# Altium integrated library Capacitors - Ceramic - 0402.IntLib: 4569 symbols (part 81 of 100)
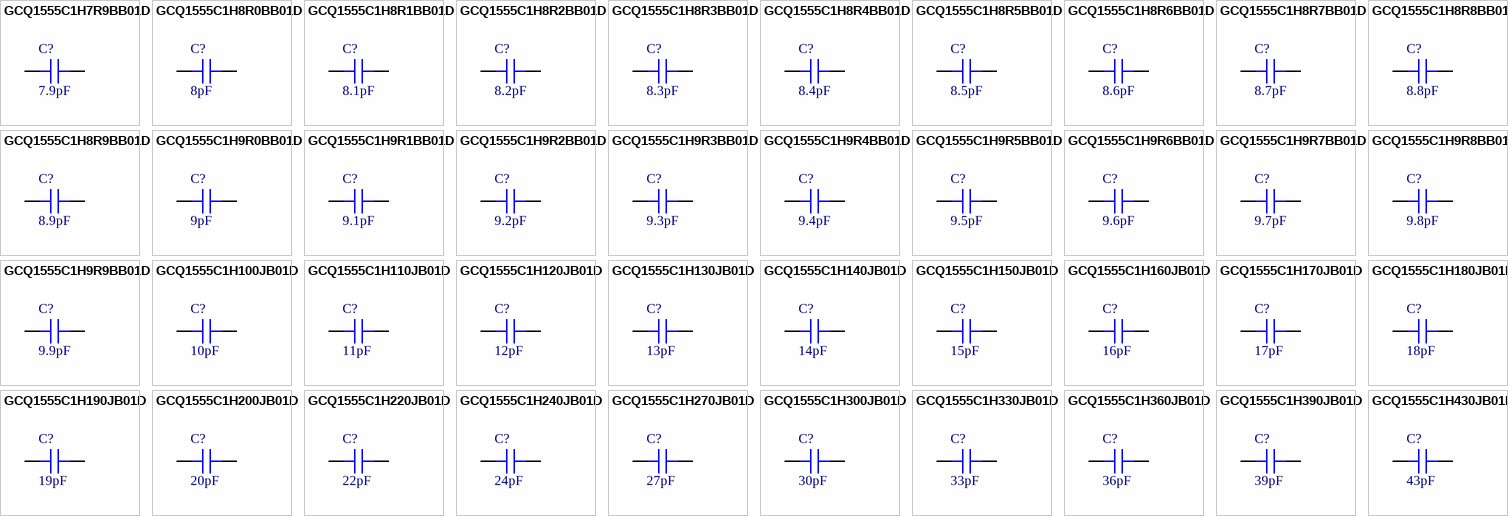
[diagram p194: symbols GCQ1555C1H7R9BB01D to GCQ1555C1H430JB01D]

## GCQ1555C1H130JB01D
designator C?, comment 13pF
CAP CER 13PF 50V C0G/NP0 0402; Part Number: GCQ1555C1H130JB01D; Manufacturer: Murata Electronics; Temperature Coefficient: C0G, NP0; Tolerance: ±5%; Value: 13pF; Applications: RF, Microwave, High Frequency, Automotive; Capacitance: 13pF; ComponentLink1Description: Datasheet; ComponentLink1URL: https://search.murata.co.jp/Ceramy/image/img/A01X/G101/ENG/GCQ1555C1H130JB01-01.pdf; ComponentLink2Description: DigiKey Link; ComponentLink2URL: http://digikey.com/product-detail/en/murata-electronics/GCQ1555C1H130JB01D/490-17426-1-ND/7897598; Device Package: 0402 (1005 Metric); LastUpdated: 9/2/2020 1:02:18 AM; Lifecycle Status: Active; Minimum Order: 1; Mounting Type: Surface Mount, MLCC; Operating Temperature: -55°C ~ 125°C; Package / Case: 0402 (1005 Metric); Packaging: TapeAndReel; PartId: 4526; Part Status: Active; Price: 0.07; Ratings: AEC-Q200; Series: GCQ; Size / Dimension: 0.039" L x 0.020" W (1.00mm x 0.50mm); Supplier 1: DigiKey; Supplier Part Number 1: 490-17426-1-ND; Thickness (Max): 0.022" (0.55mm); Voltage - Rated: 50V
footprint CAP 0402_1005
pins: 1, 2

## GCQ1555C1H140JB01D
designator C?, comment 14pF
CAP CER 14PF 50V C0G/NP0 0402; Part Number: GCQ1555C1H140JB01D; Manufacturer: Murata Electronics; Temperature Coefficient: C0G, NP0; Tolerance: ±5%; Value: 14pF; Applications: RF, Microwave, High Frequency, Automotive; Capacitance: 14pF; ComponentLink1Description: Datasheet; ComponentLink1URL: https://search.murata.co.jp/Ceramy/image/img/A01X/G101/ENG/GCQ1555C1H140JB01-01.pdf; ComponentLink2Description: DigiKey Link; ComponentLink2URL: http://digikey.com/product-detail/en/murata-electronics/GCQ1555C1H140JB01D/490-17427-1-ND/7897599; Device Package: 0402 (1005 Metric); LastUpdated: 9/2/2020 1:02:16 AM; Lifecycle Status: Active; Minimum Order: 1; Mounting Type: Surface Mount, MLCC; Operating Temperature: -55°C ~ 125°C; Package / Case: 0402 (1005 Metric); Packaging: TapeAndReel; PartId: 5239; Part Status: Active; Price: 0.07; Ratings: AEC-Q200; Series: GCQ; Size / Dimension: 0.039" L x 0.020" W (1.00mm x 0.50mm); Supplier 1: DigiKey; Supplier Part Number 1: 490-17427-1-ND; Thickness (Max): 0.022" (0.55mm); Voltage - Rated: 50V
footprint CAP 0402_1005
pins: 1, 2

## GCQ1555C1H150JB01D
designator C?, comment 15pF
CAP CER 15PF 50V C0G/NP0 0402; Part Number: GCQ1555C1H150JB01D; Manufacturer: Murata Electronics; Temperature Coefficient: C0G, NP0; Tolerance: ±5%; Value: 15pF; Applications: RF, Microwave, High Frequency, Automotive; Capacitance: 15pF; ComponentLink1Description: Datasheet; ComponentLink1URL: https://search.murata.co.jp/Ceramy/image/img/A01X/G101/ENG/GCQ1555C1H150JB01-01.pdf; ComponentLink2Description: DigiKey Link; ComponentLink2URL: http://digikey.com/product-detail/en/murata-electronics/GCQ1555C1H150JB01D/490-17428-1-ND/7897600; Device Package: 0402 (1005 Metric); LastUpdated: 9/2/2020 1:02:11 AM; Lifecycle Status: Active; Minimum Order: 1; Mounting Type: Surface Mount, MLCC; Operating Temperature: -55°C ~ 125°C; Package / Case: 0402 (1005 Metric); Packaging: TapeAndReel; PartId: 7573; Part Status: Active; Price: 0.07; Ratings: AEC-Q200; Series: GCQ; Size / Dimension: 0.039" L x 0.020" W (1.00mm x 0.50mm); Supplier 1: DigiKey; Supplier Part Number 1: 490-17428-1-ND; Thickness (Max): 0.022" (0.55mm); Voltage - Rated: 50V
footprint CAP 0402_1005
pins: 1, 2

## GCQ1555C1H160JB01D
designator C?, comment 16pF
CAP CER 16PF 50V C0G/NP0 0402; Part Number: GCQ1555C1H160JB01D; Manufacturer: Murata Electronics; Temperature Coefficient: C0G, NP0; Tolerance: ±5%; Value: 16pF; Applications: RF, Microwave, High Frequency, Automotive; Capacitance: 16pF; ComponentLink1Description: Datasheet; ComponentLink1URL: https://search.murata.co.jp/Ceramy/image/img/A01X/G101/ENG/GCQ1555C1H160JB01-01.pdf; ComponentLink2Description: DigiKey Link; ComponentLink2URL: http://digikey.com/product-detail/en/murata-electronics/GCQ1555C1H160JB01D/490-17429-1-ND/7897601; Device Package: 0402 (1005 Metric); LastUpdated: 9/2/2020 1:02:23 AM; Lifecycle Status: Active; Minimum Order: 1; Mounting Type: Surface Mount, MLCC; Operating Temperature: -55°C ~ 125°C; Package / Case: 0402 (1005 Metric); Packaging: TapeAndReel; PartId: 2103; Part Status: Active; Price: 0.07; Ratings: AEC-Q200; Series: GCQ; Size / Dimension: 0.039" L x 0.020" W (1.00mm x 0.50mm); Supplier 1: DigiKey; Supplier Part Number 1: 490-17429-1-ND; Thickness (Max): 0.022" (0.55mm); Voltage - Rated: 50V
footprint CAP 0402_1005
pins: 1, 2

## GCQ1555C1H170JB01D
designator C?, comment 17pF
CAP CER 17PF 50V C0G/NP0 0402; Part Number: GCQ1555C1H170JB01D; Manufacturer: Murata Electronics; Temperature Coefficient: C0G, NP0; Tolerance: ±5%; Value: 17pF; Applications: RF, Microwave, High Frequency, Automotive; Capacitance: 17pF; ComponentLink1Description: Datasheet; ComponentLink1URL: https://search.murata.co.jp/Ceramy/image/img/A01X/G101/ENG/GCQ1555C1H170JB01-01.pdf; ComponentLink2Description: DigiKey Link; ComponentLink2URL: http://digikey.com/product-detail/en/murata-electronics/GCQ1555C1H170JB01D/490-17430-1-ND/7897602; Device Package: 0402 (1005 Metric); LastUpdated: 9/2/2020 1:02:18 AM; Lifecycle Status: Active; Minimum Order: 1; Mounting Type: Surface Mount, MLCC; Operating Temperature: -55°C ~ 125°C; Package / Case: 0402 (1005 Metric); Packaging: TapeAndReel; PartId: 4738; Part Status: Active; Price: 0.07; Ratings: AEC-Q200; Series: GCQ; Size / Dimension: 0.039" L x 0.020" W (1.00mm x 0.50mm); Supplier 1: DigiKey; Supplier Part Number 1: 490-17430-1-ND; Thickness (Max): 0.022" (0.55mm); Voltage - Rated: 50V
footprint CAP 0402_1005
pins: 1, 2

## GCQ1555C1H180JB01D
designator C?, comment 18pF
CAP CER 18PF 50V C0G/NP0 0402; Part Number: GCQ1555C1H180JB01D; Manufacturer: Murata Electronics; Temperature Coefficient: C0G, NP0; Tolerance: ±5%; Value: 18pF; Applications: RF, Microwave, High Frequency, Automotive; Capacitance: 18pF; ComponentLink1Description: Datasheet; ComponentLink1URL: https://search.murata.co.jp/Ceramy/image/img/A01X/G101/ENG/GCQ1555C1H180JB01-01.pdf; ComponentLink2Description: DigiKey Link; ComponentLink2URL: http://digikey.com/product-detail/en/murata-electronics/GCQ1555C1H180JB01D/490-17431-1-ND/7897603; Device Package: 0402 (1005 Metric); LastUpdated: 9/2/2020 1:02:18 AM; Lifecycle Status: Active; Minimum Order: 1; Mounting Type: Surface Mount, MLCC; Operating Temperature: -55°C ~ 125°C; Package / Case: 0402 (1005 Metric); Packaging: TapeAndReel; PartId: 4516; Part Status: Active; Price: 0.07; Ratings: AEC-Q200; Series: GCQ; Size / Dimension: 0.039" L x 0.020" W (1.00mm x 0.50mm); Supplier 1: DigiKey; Supplier Part Number 1: 490-17431-1-ND; Thickness (Max): 0.022" (0.55mm); Voltage - Rated: 50V
footprint CAP 0402_1005
pins: 1, 2

## GCQ1555C1H190JB01D
designator C?, comment 19pF
CAP CER 19PF 50V C0G/NP0 0402; Part Number: GCQ1555C1H190JB01D; Manufacturer: Murata Electronics; Temperature Coefficient: C0G, NP0; Tolerance: ±5%; Value: 19pF; Applications: RF, Microwave, High Frequency, Automotive; Capacitance: 19pF; ComponentLink1Description: Datasheet; ComponentLink1URL: https://search.murata.co.jp/Ceramy/image/img/A01X/G101/ENG/GCQ1555C1H190JB01-01.pdf; ComponentLink2Description: DigiKey Link; ComponentLink2URL: http://digikey.com/product-detail/en/murata-electronics/GCQ1555C1H190JB01D/490-17432-1-ND/7897604; Device Package: 0402 (1005 Metric); LastUpdated: 9/2/2020 1:02:12 AM; Lifecycle Status: Active; Minimum Order: 1; Mounting Type: Surface Mount, MLCC; Operating Temperature: -55°C ~ 125°C; Package / Case: 0402 (1005 Metric); Packaging: TapeAndReel; PartId: 7210; Part Status: Active; Price: 0.07; Ratings: AEC-Q200; Series: GCQ; Size / Dimension: 0.039" L x 0.020" W (1.00mm x 0.50mm); Supplier 1: DigiKey; Supplier Part Number 1: 490-17432-1-ND; Thickness (Max): 0.022" (0.55mm); Voltage - Rated: 50V
footprint CAP 0402_1005
pins: 1, 2

## GCQ1555C1H200JB01D
designator C?, comment 20pF
CAP CER 20PF 50V C0G/NP0 0402; Part Number: GCQ1555C1H200JB01D; Manufacturer: Murata Electronics; Temperature Coefficient: C0G, NP0; Tolerance: ±5%; Value: 20pF; Applications: RF, Microwave, High Frequency, Automotive; Capacitance: 20pF; ComponentLink1Description: Datasheet; ComponentLink1URL: https://search.murata.co.jp/Ceramy/image/img/A01X/G101/ENG/GCQ1555C1H200JB01-01.pdf; ComponentLink2Description: DigiKey Link; ComponentLink2URL: http://digikey.com/product-detail/en/murata-electronics/GCQ1555C1H200JB01D/490-17443-1-ND/7897615; Device Package: 0402 (1005 Metric); LastUpdated: 9/2/2020 1:02:18 AM; Lifecycle Status: Active; Minimum Order: 1; Mounting Type: Surface Mount, MLCC; Operating Temperature: -55°C ~ 125°C; Package / Case: 0402 (1005 Metric); Packaging: TapeAndReel; PartId: 4508; Part Status: Active; Price: 0.07; Ratings: AEC-Q200; Series: GCQ; Size / Dimension: 0.039" L x 0.020" W (1.00mm x 0.50mm); Supplier 1: DigiKey; Supplier Part Number 1: 490-17443-1-ND; Thickness (Max): 0.022" (0.55mm); Voltage - Rated: 50V
footprint CAP 0402_1005
pins: 1, 2

## GCQ1555C1H220JB01D
designator C?, comment 22pF
CAP CER 22PF 50V C0G/NP0 0402; Part Number: GCQ1555C1H220JB01D; Manufacturer: Murata Electronics; Temperature Coefficient: C0G, NP0; Tolerance: ±5%; Value: 22pF; Applications: RF, Microwave, High Frequency, Automotive; Capacitance: 22pF; ComponentLink1Description: Datasheet; ComponentLink1URL: https://search.murata.co.jp/Ceramy/image/img/A01X/G101/ENG/GCQ1555C1H220JB01-01.pdf; ComponentLink2Description: DigiKey Link; ComponentLink2URL: http://digikey.com/product-detail/en/murata-electronics/GCQ1555C1H220JB01D/490-17444-1-ND/7897616; Device Package: 0402 (1005 Metric); LastUpdated: 9/2/2020 1:02:12 AM; Lifecycle Status: Active; Minimum Order: 1; Mounting Type: Surface Mount, MLCC; Operating Temperature: -55°C ~ 125°C; Package / Case: 0402 (1005 Metric); Packaging: TapeAndReel; PartId: 7199; Part Status: Active; Price: 0.07; Ratings: AEC-Q200; Series: GCQ; Size / Dimension: 0.039" L x 0.020" W (1.00mm x 0.50mm); Supplier 1: DigiKey; Supplier Part Number 1: 490-17444-1-ND; Thickness (Max): 0.022" (0.55mm); Voltage - Rated: 50V
footprint CAP 0402_1005
pins: 1, 2

## GCQ1555C1H240JB01D
designator C?, comment 24pF
CAP CER 24PF 50V C0G/NP0 0402; Part Number: GCQ1555C1H240JB01D; Manufacturer: Murata Electronics; Temperature Coefficient: C0G, NP0; Tolerance: ±5%; Value: 24pF; Applications: RF, Microwave, High Frequency, Automotive; Capacitance: 24pF; ComponentLink1Description: Datasheet; ComponentLink1URL: https://search.murata.co.jp/Ceramy/image/img/A01X/G101/ENG/GCQ1555C1H240JB01-01.pdf; ComponentLink2Description: DigiKey Link; ComponentLink2URL: http://digikey.com/product-detail/en/murata-electronics/GCQ1555C1H240JB01D/490-17445-1-ND/7897617; Device Package: 0402 (1005 Metric); LastUpdated: 9/2/2020 1:02:18 AM; Lifecycle Status: Active; Minimum Order: 1; Mounting Type: Surface Mount, MLCC; Operating Temperature: -55°C ~ 125°C; Package / Case: 0402 (1005 Metric); Packaging: TapeAndReel; PartId: 4519; Part Status: Active; Price: 0.07; Ratings: AEC-Q200; Series: GCQ; Size / Dimension: 0.039" L x 0.020" W (1.00mm x 0.50mm); Supplier 1: DigiKey; Supplier Part Number 1: 490-17445-1-ND; Thickness (Max): 0.022" (0.55mm); Voltage - Rated: 50V
footprint CAP 0402_1005
pins: 1, 2

## GCQ1555C1H270JB01D
designator C?, comment 27pF
CAP CER 27PF 50V C0G/NP0 0402; Part Number: GCQ1555C1H270JB01D; Manufacturer: Murata Electronics; Temperature Coefficient: C0G, NP0; Tolerance: ±5%; Value: 27pF; Applications: RF, Microwave, High Frequency, Automotive; Capacitance: 27pF; ComponentLink1Description: Datasheet; ComponentLink1URL: https://search.murata.co.jp/Ceramy/image/img/A01X/G101/ENG/GCQ1555C1H270JB01-01.pdf; ComponentLink2Description: DigiKey Link; ComponentLink2URL: http://digikey.com/product-detail/en/murata-electronics/GCQ1555C1H270JB01D/490-17446-1-ND/7897618; Device Package: 0402 (1005 Metric); LastUpdated: 9/2/2020 1:02:12 AM; Lifecycle Status: Active; Minimum Order: 1; Mounting Type: Surface Mount, MLCC; Operating Temperature: -55°C ~ 125°C; Package / Case: 0402 (1005 Metric); Packaging: TapeAndReel; PartId: 7246; Part Status: Active; Price: 0.07; Ratings: AEC-Q200; Series: GCQ; Size / Dimension: 0.039" L x 0.020" W (1.00mm x 0.50mm); Supplier 1: DigiKey; Supplier Part Number 1: 490-17446-1-ND; Thickness (Max): 0.022" (0.55mm); Voltage - Rated: 50V
footprint CAP 0402_1005
pins: 1, 2

## GCQ1555C1H300JB01D
designator C?, comment 30pF
CAP CER 30PF 50V C0G/NP0 0402; Part Number: GCQ1555C1H300JB01D; Manufacturer: Murata Electronics; Temperature Coefficient: C0G, NP0; Tolerance: ±5%; Value: 30pF; Applications: RF, Microwave, High Frequency, Automotive; Capacitance: 30pF; ComponentLink1Description: Datasheet; ComponentLink1URL: https://search.murata.co.jp/Ceramy/image/img/A01X/G101/ENG/GCQ1555C1H300JB01-01.pdf; ComponentLink2Description: DigiKey Link; ComponentLink2URL: http://digikey.com/product-detail/en/murata-electronics/GCQ1555C1H300JB01D/490-17457-1-ND/7897629; Device Package: 0402 (1005 Metric); LastUpdated: 9/2/2020 1:02:18 AM; Lifecycle Status: Active; Minimum Order: 1; Mounting Type: Surface Mount, MLCC; Operating Temperature: -55°C ~ 125°C; Package / Case: 0402 (1005 Metric); Packaging: TapeAndReel; PartId: 4513; Part Status: Active; Price: 0.07; Ratings: AEC-Q200; Series: GCQ; Size / Dimension: 0.039" L x 0.020" W (1.00mm x 0.50mm); Supplier 1: DigiKey; Supplier Part Number 1: 490-17457-1-ND; Thickness (Max): 0.022" (0.55mm); Voltage - Rated: 50V
footprint CAP 0402_1005
pins: 1, 2

## GCQ1555C1H330JB01D
designator C?, comment 33pF
CAP CER 33PF 50V C0G/NP0 0402; Part Number: GCQ1555C1H330JB01D; Manufacturer: Murata Electronics; Temperature Coefficient: C0G, NP0; Tolerance: ±5%; Value: 33pF; Applications: RF, Microwave, High Frequency, Automotive; Capacitance: 33pF; ComponentLink1Description: Datasheet; ComponentLink1URL: https://search.murata.co.jp/Ceramy/image/img/A01X/G101/ENG/GCQ1555C1H330JB01-01.pdf; ComponentLink2Description: DigiKey Link; ComponentLink2URL: http://digikey.com/product-detail/en/murata-electronics/GCQ1555C1H330JB01D/490-17458-1-ND/7897630; Device Package: 0402 (1005 Metric); LastUpdated: 9/2/2020 1:02:12 AM; Lifecycle Status: Active; Minimum Order: 1; Mounting Type: Surface Mount, MLCC; Operating Temperature: -55°C ~ 125°C; Package / Case: 0402 (1005 Metric); Packaging: TapeAndReel; PartId: 7241; Part Status: Active; Price: 0.07; Ratings: AEC-Q200; Series: GCQ; Size / Dimension: 0.039" L x 0.020" W (1.00mm x 0.50mm); Supplier 1: DigiKey; Supplier Part Number 1: 490-17458-1-ND; Thickness (Max): 0.022" (0.55mm); Voltage - Rated: 50V
footprint CAP 0402_1005
pins: 1, 2

## GCQ1555C1H360JB01D
designator C?, comment 36pF
CAP CER 36PF 50V C0G/NP0 0402; Part Number: GCQ1555C1H360JB01D; Manufacturer: Murata Electronics; Temperature Coefficient: C0G, NP0; Tolerance: ±5%; Value: 36pF; Applications: RF, Microwave, High Frequency, Automotive; Capacitance: 36pF; ComponentLink1Description: Datasheet; ComponentLink1URL: https://search.murata.co.jp/Ceramy/image/img/A01X/G101/ENG/GCQ1555C1H360JB01-01.pdf; ComponentLink2Description: DigiKey Link; ComponentLink2URL: http://digikey.com/product-detail/en/murata-electronics/GCQ1555C1H360JB01D/490-17459-1-ND/7897631; Device Package: 0402 (1005 Metric); LastUpdated: 9/2/2020 1:02:11 AM; Lifecycle Status: Active; Minimum Order: 1; Mounting Type: Surface Mount, MLCC; Operating Temperature: -55°C ~ 125°C; Package / Case: 0402 (1005 Metric); Packaging: TapeAndReel; PartId: 7530; Part Status: Active; Price: 0.07; Ratings: AEC-Q200; Series: GCQ; Size / Dimension: 0.039" L x 0.020" W (1.00mm x 0.50mm); Supplier 1: DigiKey; Supplier Part Number 1: 490-17459-1-ND; Thickness (Max): 0.022" (0.55mm); Voltage - Rated: 50V
footprint CAP 0402_1005
pins: 1, 2

## GCQ1555C1H390JB01D
designator C?, comment 39pF
CAP CER 39PF 50V C0G/NP0 0402; Part Number: GCQ1555C1H390JB01D; Manufacturer: Murata Electronics; Temperature Coefficient: C0G, NP0; Tolerance: ±5%; Value: 39pF; Applications: RF, Microwave, High Frequency, Automotive; Capacitance: 39pF; ComponentLink1Description: Datasheet; ComponentLink1URL: https://search.murata.co.jp/Ceramy/image/img/A01X/G101/ENG/GCQ1555C1H390JB01-01.pdf; ComponentLink2Description: DigiKey Link; ComponentLink2URL: http://digikey.com/product-detail/en/murata-electronics/GCQ1555C1H390JB01D/490-17460-1-ND/7897632; Device Package: 0402 (1005 Metric); LastUpdated: 9/2/2020 1:02:18 AM; Lifecycle Status: Active; Minimum Order: 1; Mounting Type: Surface Mount, MLCC; Operating Temperature: -55°C ~ 125°C; Package / Case: 0402 (1005 Metric); Packaging: TapeAndReel; PartId: 4523; Part Status: Active; Price: 0.07; Ratings: AEC-Q200; Series: GCQ; Size / Dimension: 0.039" L x 0.020" W (1.00mm x 0.50mm); Supplier 1: DigiKey; Supplier Part Number 1: 490-17460-1-ND; Thickness (Max): 0.022" (0.55mm); Voltage - Rated: 50V
footprint CAP 0402_1005
pins: 1, 2

## GCQ1555C1H430JB01D
designator C?, comment 43pF
CAP CER 43PF 50V C0G/NP0 0402; Part Number: GCQ1555C1H430JB01D; Manufacturer: Murata Electronics; Temperature Coefficient: C0G, NP0; Tolerance: ±5%; Value: 43pF; Applications: RF, Microwave, High Frequency, Automotive; Capacitance: 43pF; ComponentLink1Description: Datasheet; ComponentLink1URL: https://search.murata.co.jp/Ceramy/image/img/A01X/G101/ENG/GCQ1555C1H430JB01-01.pdf; ComponentLink2Description: DigiKey Link; ComponentLink2URL: http://digikey.com/product-detail/en/murata-electronics/GCQ1555C1H430JB01D/490-17471-1-ND/7897643; Device Package: 0402 (1005 Metric); LastUpdated: 9/2/2020 1:02:12 AM; Lifecycle Status: Active; Minimum Order: 1; Mounting Type: Surface Mount, MLCC; Operating Temperature: -55°C ~ 125°C; Package / Case: 0402 (1005 Metric); Packaging: TapeAndReel; PartId: 7229; Part Status: Active; Price: 0.07; Ratings: AEC-Q200; Series: GCQ; Size / Dimension: 0.039" L x 0.020" W (1.00mm x 0.50mm); Supplier 1: DigiKey; Supplier Part Number 1: 490-17471-1-ND; Thickness (Max): 0.022" (0.55mm); Voltage - Rated: 50V
footprint CAP 0402_1005
pins: 1, 2

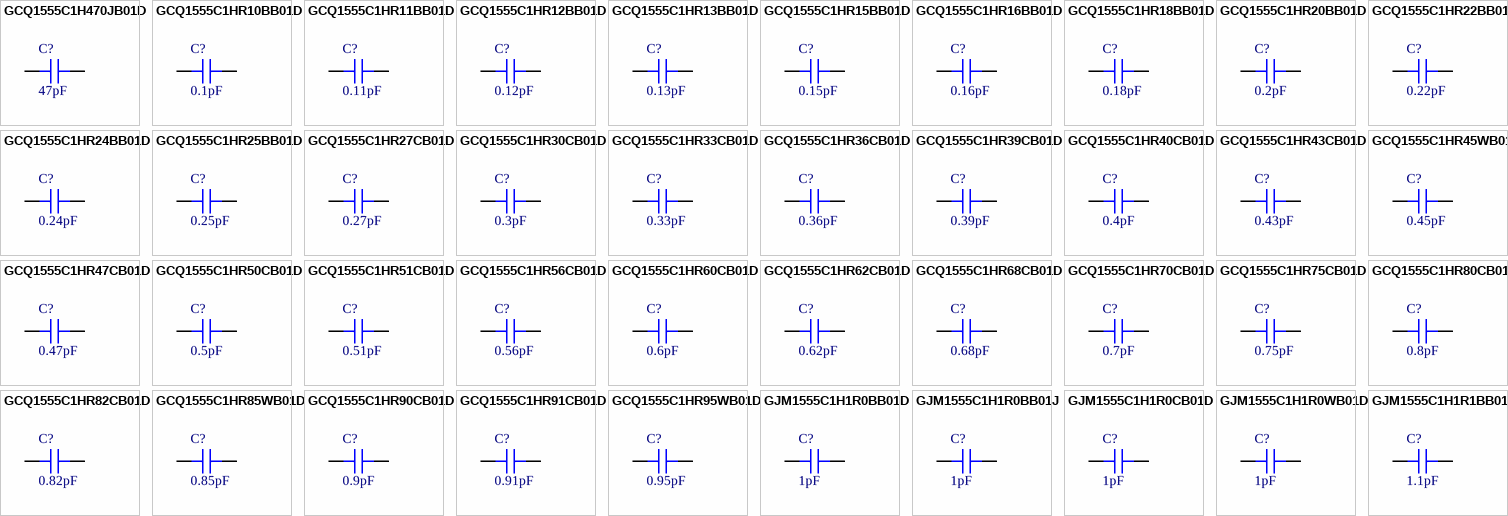
[diagram p92: symbols GCQ1555C1H470JB01D to GJM1555C1H1R1BB01D]

## GCQ1555C1H470JB01D
designator C?, comment 47pF
CAP CER 47PF 50V C0G/NP0 0402; Part Number: GCQ1555C1H470JB01D; Manufacturer: Murata Electronics; Temperature Coefficient: C0G, NP0; Tolerance: ±5%; Value: 47pF; Applications: RF, Microwave, High Frequency, Automotive; Capacitance: 47pF; ComponentLink1Description: Datasheet; ComponentLink1URL: https://search.murata.co.jp/Ceramy/image/img/A01X/G101/ENG/GCQ1555C1H470JB01-01.pdf; ComponentLink2Description: DigiKey Link; ComponentLink2URL: http://digikey.com/product-detail/en/murata-electronics/GCQ1555C1H470JB01D/490-17472-1-ND/7897644; Device Package: 0402 (1005 Metric); LastUpdated: 9/2/2020 1:02:11 AM; Lifecycle Status: Active; Minimum Order: 1; Mounting Type: Surface Mount, MLCC; Operating Temperature: -55°C ~ 125°C; Package / Case: 0402 (1005 Metric); Packaging: TapeAndReel; PartId: 7570; Part Status: Active; Price: 0.07; Ratings: AEC-Q200; Series: GCQ; Size / Dimension: 0.039" L x 0.020" W (1.00mm x 0.50mm); Supplier 1: DigiKey; Supplier Part Number 1: 490-17472-1-ND; Thickness (Max): 0.022" (0.55mm); Voltage - Rated: 50V
footprint CAP 0402_1005
pins: 1, 2

## GCQ1555C1HR10BB01D
designator C?, comment 0.1pF
CAP CER 0.1PF 50V C0G/NP0 0402; Part Number: GCQ1555C1HR10BB01D; Manufacturer: Murata Electronics; Temperature Coefficient: C0G, NP0; Value: 0.1pF; Applications: RF, Microwave, High Frequency, Automotive; Capacitance: 0.1pF; ComponentLink1Description: Datasheet; ComponentLink1URL: https://search.murata.co.jp/Ceramy/image/img/A01X/G101/ENG/GCQ1555C1HR10BB01-01.pdf; ComponentLink2Description: DigiKey Link; ComponentLink2URL: http://digikey.com/product-detail/en/murata-electronics/GCQ1555C1HR10BB01D/490-17533-1-ND/7897705; Device Package: 0402 (1005 Metric); LastUpdated: 9/2/2020 1:02:09 AM; Lifecycle Status: Active; Minimum Order: 1; Mounting Type: Surface Mount, MLCC; Operating Temperature: -55°C ~ 125°C; Package / Case: 0402 (1005 Metric); Packaging: TapeAndReel; PartId: 8606; Part Status: Active; Price: 0.06; Ratings: AEC-Q200; Series: GCQ; Size / Dimension: 0.039" L x 0.020" W (1.00mm x 0.50mm); Supplier 1: DigiKey; Supplier Part Number 1: 490-17533-1-ND; Thickness (Max): 0.022" (0.55mm); Tolerance: ±0.1pF; Voltage - Rated: 50V
footprint CAP 0402_1005
pins: 1, 2

## GCQ1555C1HR11BB01D
designator C?, comment 0.11pF
CAP CER 0.11PF 50V C0G/NP0 0402; Part Number: GCQ1555C1HR11BB01D; Manufacturer: Murata Electronics; Temperature Coefficient: C0G, NP0; Tolerance: ±0.1pF; Value: 0.11pF; Applications: RF, Microwave, High Frequency, Automotive; Capacitance: 0.11pF; ComponentLink1Description: Datasheet; ComponentLink1URL: https://search.murata.co.jp/Ceramy/image/img/A01X/G101/ENG/GCQ1555C1HR11BB01-01.pdf; ComponentLink2Description: DigiKey Link; ComponentLink2URL: http://digikey.com/product-detail/en/murata-electronics/GCQ1555C1HR11BB01D/490-17534-1-ND/7897706; Device Package: 0402 (1005 Metric); LastUpdated: 9/2/2020 1:01:52 AM; Lifecycle Status: Active; Minimum Order: 1; Mounting Type: Surface Mount, MLCC; Operating Temperature: -55°C ~ 125°C; Package / Case: 0402 (1005 Metric); Packaging: TapeAndReel; PartId: 12138; Part Status: Active; Price: 0.06; Ratings: AEC-Q200; Series: GCQ; Size / Dimension: 0.039" L x 0.020" W (1.00mm x 0.50mm); Supplier 1: DigiKey; Supplier Part Number 1: 490-17534-1-ND; Thickness (Max): 0.022" (0.55mm); Voltage - Rated: 50V
footprint CAP 0402_1005
pins: 1, 2

## GCQ1555C1HR12BB01D
designator C?, comment 0.12pF
CAP CER 0.12PF 50V C0G/NP0 0402; Part Number: GCQ1555C1HR12BB01D; Manufacturer: Murata Electronics; Temperature Coefficient: C0G, NP0; Tolerance: ±0.1pF; Value: 0.12pF; Applications: RF, Microwave, High Frequency, Automotive; Capacitance: 0.12pF; ComponentLink1Description: Datasheet; ComponentLink1URL: https://search.murata.co.jp/Ceramy/image/img/A01X/G101/ENG/GCQ1555C1HR12BB01-01.pdf; ComponentLink2Description: DigiKey Link; ComponentLink2URL: http://digikey.com/product-detail/en/murata-electronics/GCQ1555C1HR12BB01D/490-17535-1-ND/7897707; Device Package: 0402 (1005 Metric); LastUpdated: 9/2/2020 1:01:19 AM; Lifecycle Status: Active; Minimum Order: 1; Mounting Type: Surface Mount, MLCC; Operating Temperature: -55°C ~ 125°C; Package / Case: 0402 (1005 Metric); Packaging: TapeAndReel; PartId: 13260; Part Status: Active; Price: 0.06; Ratings: AEC-Q200; Series: GCQ; Size / Dimension: 0.039" L x 0.020" W (1.00mm x 0.50mm); Supplier 1: DigiKey; Supplier Part Number 1: 490-17535-1-ND; Thickness (Max): 0.022" (0.55mm); Voltage - Rated: 50V
footprint CAP 0402_1005
pins: 1, 2

## GCQ1555C1HR13BB01D
designator C?, comment 0.13pF
CAP CER 0.13PF 50V C0G/NP0 0402; Part Number: GCQ1555C1HR13BB01D; Manufacturer: Murata Electronics; Temperature Coefficient: C0G, NP0; Tolerance: ±0.1pF; Value: 0.13pF; Applications: RF, Microwave, High Frequency, Automotive; Capacitance: 0.13pF; ComponentLink1Description: Datasheet; ComponentLink1URL: https://search.murata.co.jp/Ceramy/image/img/A01X/G101/ENG/GCQ1555C1HR13BB01-01.pdf; ComponentLink2Description: DigiKey Link; ComponentLink2URL: http://digikey.com/product-detail/en/murata-electronics/GCQ1555C1HR13BB01D/490-17536-1-ND/7897708; Device Package: 0402 (1005 Metric); LastUpdated: 9/2/2020 1:01:50 AM; Lifecycle Status: Active; Minimum Order: 1; Mounting Type: Surface Mount, MLCC; Operating Temperature: -55°C ~ 125°C; Package / Case: 0402 (1005 Metric); Packaging: TapeAndReel; PartId: 12178; Part Status: Active; Price: 0.06; Ratings: AEC-Q200; Series: GCQ; Size / Dimension: 0.039" L x 0.020" W (1.00mm x 0.50mm); Supplier 1: DigiKey; Supplier Part Number 1: 490-17536-1-ND; Thickness (Max): 0.022" (0.55mm); Voltage - Rated: 50V
footprint CAP 0402_1005
pins: 1, 2

## GCQ1555C1HR15BB01D
designator C?, comment 0.15pF
CAP CER 0.15PF 50V C0G/NP0 0402; Part Number: GCQ1555C1HR15BB01D; Manufacturer: Murata Electronics; Temperature Coefficient: C0G, NP0; Tolerance: ±0.1pF; Value: 0.15pF; Applications: RF, Microwave, High Frequency, Automotive; Capacitance: 0.15pF; ComponentLink1Description: Datasheet; ComponentLink1URL: https://search.murata.co.jp/Ceramy/image/img/A01X/G101/ENG/GCQ1555C1HR15BB01-01.pdf; ComponentLink2Description: DigiKey Link; ComponentLink2URL: http://digikey.com/product-detail/en/murata-electronics/GCQ1555C1HR15BB01D/490-17537-1-ND/7897709; Device Package: 0402 (1005 Metric); LastUpdated: 9/2/2020 1:02:21 AM; Lifecycle Status: Active; Minimum Order: 1; Mounting Type: Surface Mount, MLCC; Operating Temperature: -55°C ~ 125°C; Package / Case: 0402 (1005 Metric); Packaging: TapeAndReel; PartId: 3083; Part Status: Active; Price: 0.06; Ratings: AEC-Q200; Series: GCQ; Size / Dimension: 0.039" L x 0.020" W (1.00mm x 0.50mm); Supplier 1: DigiKey; Supplier Part Number 1: 490-17537-1-ND; Thickness (Max): 0.022" (0.55mm); Voltage - Rated: 50V
footprint CAP 0402_1005
pins: 1, 2

## GCQ1555C1HR16BB01D
designator C?, comment 0.16pF
CAP CER 0.16PF 50V C0G/NP0 0402; Part Number: GCQ1555C1HR16BB01D; Manufacturer: Murata Electronics; Temperature Coefficient: C0G, NP0; Tolerance: ±0.1pF; Value: 0.16pF; Applications: RF, Microwave, High Frequency, Automotive; Capacitance: 0.16pF; ComponentLink1Description: Datasheet; ComponentLink1URL: https://search.murata.co.jp/Ceramy/image/img/A01X/G101/ENG/GCQ1555C1HR16BB01-01.pdf; ComponentLink2Description: DigiKey Link; ComponentLink2URL: http://digikey.com/product-detail/en/murata-electronics/GCQ1555C1HR16BB01D/490-17538-1-ND/7897710; Device Package: 0402 (1005 Metric); LastUpdated: 9/2/2020 1:01:18 AM; Lifecycle Status: Active; Minimum Order: 1; Mounting Type: Surface Mount, MLCC; Operating Temperature: -55°C ~ 125°C; Package / Case: 0402 (1005 Metric); Packaging: TapeAndReel; PartId: 13291; Part Status: Active; Price: 0.06; Ratings: AEC-Q200; Series: GCQ; Size / Dimension: 0.039" L x 0.020" W (1.00mm x 0.50mm); Supplier 1: DigiKey; Supplier Part Number 1: 490-17538-1-ND; Thickness (Max): 0.022" (0.55mm); Voltage - Rated: 50V
footprint CAP 0402_1005
pins: 1, 2

## GCQ1555C1HR18BB01D
designator C?, comment 0.18pF
CAP CER 0.18PF 50V C0G/NP0 0402; Part Number: GCQ1555C1HR18BB01D; Manufacturer: Murata Electronics; Temperature Coefficient: C0G, NP0; Tolerance: ±0.1pF; Value: 0.18pF; Applications: RF, Microwave, High Frequency, Automotive; Capacitance: 0.18pF; ComponentLink1Description: Datasheet; ComponentLink1URL: https://search.murata.co.jp/Ceramy/image/img/A01X/G101/ENG/GCQ1555C1HR18BB01-01.pdf; ComponentLink2Description: DigiKey Link; ComponentLink2URL: http://digikey.com/product-detail/en/murata-electronics/GCQ1555C1HR18BB01D/490-17539-1-ND/7897711; Device Package: 0402 (1005 Metric); LastUpdated: 9/2/2020 1:01:51 AM; Lifecycle Status: Active; Minimum Order: 1; Mounting Type: Surface Mount, MLCC; Operating Temperature: -55°C ~ 125°C; Package / Case: 0402 (1005 Metric); Packaging: TapeAndReel; PartId: 12167; Part Status: Active; Price: 0.06; Ratings: AEC-Q200; Series: GCQ; Size / Dimension: 0.039" L x 0.020" W (1.00mm x 0.50mm); Supplier 1: DigiKey; Supplier Part Number 1: 490-17539-1-ND; Thickness (Max): 0.022" (0.55mm); Voltage - Rated: 50V
footprint CAP 0402_1005
pins: 1, 2

## GCQ1555C1HR20BB01D
designator C?, comment 0.2pF
CAP CER 0.2PF 50V C0G/NP0 0402; Part Number: GCQ1555C1HR20BB01D; Manufacturer: Murata Electronics; Temperature Coefficient: C0G, NP0; Tolerance: ±0.1pF; Value: 0.2pF; Applications: RF, Microwave, High Frequency, Automotive; Capacitance: 0.2pF; ComponentLink1Description: Datasheet; ComponentLink1URL: https://search.murata.co.jp/Ceramy/image/img/A01X/G101/ENG/GCQ1555C1HR20BB01-01.pdf; ComponentLink2Description: DigiKey Link; ComponentLink2URL: http://digikey.com/product-detail/en/murata-electronics/GCQ1555C1HR20BB01D/490-17540-1-ND/7897712; Device Package: 0402 (1005 Metric); LastUpdated: 9/2/2020 1:02:09 AM; Lifecycle Status: Active; Minimum Order: 1; Mounting Type: Surface Mount, MLCC; Operating Temperature: -55°C ~ 125°C; Package / Case: 0402 (1005 Metric); Packaging: TapeAndReel; PartId: 8608; Part Status: Active; Price: 0.06; Ratings: AEC-Q200; Series: GCQ; Size / Dimension: 0.039" L x 0.020" W (1.00mm x 0.50mm); Supplier 1: DigiKey; Supplier Part Number 1: 490-17540-1-ND; Thickness (Max): 0.022" (0.55mm); Voltage - Rated: 50V
footprint CAP 0402_1005
pins: 1, 2

## GCQ1555C1HR22BB01D
designator C?, comment 0.22pF
CAP CER 0.22PF 50V C0G/NP0 0402; Part Number: GCQ1555C1HR22BB01D; Manufacturer: Murata Electronics; Temperature Coefficient: C0G, NP0; Tolerance: ±0.1pF; Value: 0.22pF; Applications: RF, Microwave, High Frequency, Automotive; Capacitance: 0.22pF; ComponentLink1Description: Datasheet; ComponentLink1URL: https://search.murata.co.jp/Ceramy/image/img/A01X/G101/ENG/GCQ1555C1HR22BB01-01.pdf; ComponentLink2Description: DigiKey Link; ComponentLink2URL: http://digikey.com/product-detail/en/murata-electronics/GCQ1555C1HR22BB01D/490-17541-1-ND/7897713; Device Package: 0402 (1005 Metric); LastUpdated: 9/2/2020 1:02:09 AM; Lifecycle Status: Active; Minimum Order: 1; Mounting Type: Surface Mount, MLCC; Operating Temperature: -55°C ~ 125°C; Package / Case: 0402 (1005 Metric); Packaging: TapeAndReel; PartId: 8611; Part Status: Active; Price: 0.06; Ratings: AEC-Q200; Series: GCQ; Size / Dimension: 0.039" L x 0.020" W (1.00mm x 0.50mm); Supplier 1: DigiKey; Supplier Part Number 1: 490-17541-1-ND; Thickness (Max): 0.022" (0.55mm); Voltage - Rated: 50V
footprint CAP 0402_1005
pins: 1, 2

## GCQ1555C1HR24BB01D
designator C?, comment 0.24pF
CAP CER 0.24PF 50V C0G/NP0 0402; Part Number: GCQ1555C1HR24BB01D; Manufacturer: Murata Electronics; Temperature Coefficient: C0G, NP0; Tolerance: ±0.1pF; Value: 0.24pF; Applications: RF, Microwave, High Frequency, Automotive; Capacitance: 0.24pF; ComponentLink1Description: Datasheet; ComponentLink1URL: https://search.murata.co.jp/Ceramy/image/img/A01X/G101/ENG/GCQ1555C1HR24BB01-01.pdf; ComponentLink2Description: DigiKey Link; ComponentLink2URL: http://digikey.com/product-detail/en/murata-electronics/GCQ1555C1HR24BB01D/490-17542-1-ND/7897714; Device Package: 0402 (1005 Metric); LastUpdated: 9/2/2020 1:01:17 AM; Lifecycle Status: Active; Minimum Order: 1; Mounting Type: Surface Mount, MLCC; Operating Temperature: -55°C ~ 125°C; Package / Case: 0402 (1005 Metric); Packaging: TapeAndReel; PartId: 13318; Part Status: Active; Price: 0.06; Ratings: AEC-Q200; Series: GCQ; Size / Dimension: 0.039" L x 0.020" W (1.00mm x 0.50mm); Supplier 1: DigiKey; Supplier Part Number 1: 490-17542-1-ND; Thickness (Max): 0.022" (0.55mm); Voltage - Rated: 50V
footprint CAP 0402_1005
pins: 1, 2

## GCQ1555C1HR25BB01D
designator C?, comment 0.25pF
CAP CER 0.25PF 50V C0G/NP0 0402; Part Number: GCQ1555C1HR25BB01D; Manufacturer: Murata Electronics; Temperature Coefficient: C0G, NP0; Tolerance: ±0.1pF; Value: 0.25pF; Applications: RF, Microwave, High Frequency, Automotive; Capacitance: 0.25pF; ComponentLink1Description: Datasheet; ComponentLink1URL: https://search.murata.co.jp/Ceramy/image/img/A01X/G101/ENG/GCQ1555C1HR25BB01-01.pdf; ComponentLink2Description: DigiKey Link; ComponentLink2URL: http://digikey.com/product-detail/en/murata-electronics/GCQ1555C1HR25BB01D/490-17543-1-ND/7897715; Device Package: 0402 (1005 Metric); LastUpdated: 9/2/2020 1:01:21 AM; Lifecycle Status: Active; Minimum Order: 1; Mounting Type: Surface Mount, MLCC; Operating Temperature: -55°C ~ 125°C; Package / Case: 0402 (1005 Metric); Packaging: TapeAndReel; PartId: 13204; Part Status: Active; Price: 0.06; Ratings: AEC-Q200; Series: GCQ; Size / Dimension: 0.039" L x 0.020" W (1.00mm x 0.50mm); Supplier 1: DigiKey; Supplier Part Number 1: 490-17543-1-ND; Thickness (Max): 0.022" (0.55mm); Voltage - Rated: 50V
footprint CAP 0402_1005
pins: 1, 2

## GCQ1555C1HR27CB01D
designator C?, comment 0.27pF
CAP CER 0.27PF 50V C0G/NP0 0402; Part Number: GCQ1555C1HR27CB01D; Manufacturer: Murata Electronics; Temperature Coefficient: C0G, NP0; Tolerance: ±0.25pF; Value: 0.27pF; Applications: RF, Microwave, High Frequency, Automotive; Capacitance: 0.27pF; ComponentLink1Description: Datasheet; ComponentLink1URL: https://search.murata.co.jp/Ceramy/image/img/A01X/G101/ENG/GCQ1555C1HR27CB01-01.pdf; ComponentLink2Description: DigiKey Link; ComponentLink2URL: http://digikey.com/product-detail/en/murata-electronics/GCQ1555C1HR27CB01D/490-17544-1-ND/7897716; Device Package: 0402 (1005 Metric); LastUpdated: 9/2/2020 1:02:16 AM; Lifecycle Status: Active; Minimum Order: 1; Mounting Type: Surface Mount, MLCC; Operating Temperature: -55°C ~ 125°C; Package / Case: 0402 (1005 Metric); Packaging: TapeAndReel; PartId: 5357; Part Status: Active; Price: 0.06; Ratings: AEC-Q200; Series: GCQ; Size / Dimension: 0.039" L x 0.020" W (1.00mm x 0.50mm); Supplier 1: DigiKey; Supplier Part Number 1: 490-17544-1-ND; Thickness (Max): 0.022" (0.55mm); Voltage - Rated: 50V
footprint CAP 0402_1005
pins: 1, 2

## GCQ1555C1HR30CB01D
designator C?, comment 0.3pF
CAP CER 0.3PF 50V C0G/NP0 0402; Part Number: GCQ1555C1HR30CB01D; Manufacturer: Murata Electronics; Temperature Coefficient: C0G, NP0; Tolerance: ±0.25pF; Value: 0.3pF; Applications: RF, Microwave, High Frequency, Automotive; Capacitance: 0.3pF; ComponentLink1Description: Datasheet; ComponentLink1URL: https://search.murata.co.jp/Ceramy/image/img/A01X/G101/ENG/GCQ1555C1HR30CB01-01.pdf; ComponentLink2Description: DigiKey Link; ComponentLink2URL: http://digikey.com/product-detail/en/murata-electronics/GCQ1555C1HR30CB01D/490-17545-1-ND/7897717; Device Package: 0402 (1005 Metric); LastUpdated: 9/2/2020 1:02:16 AM; Lifecycle Status: Active; Minimum Order: 1; Mounting Type: Surface Mount, MLCC; Operating Temperature: -55°C ~ 125°C; Package / Case: 0402 (1005 Metric); Packaging: TapeAndReel; PartId: 5301; Part Status: Active; Price: 0.06; Ratings: AEC-Q200; Series: GCQ; Size / Dimension: 0.039" L x 0.020" W (1.00mm x 0.50mm); Supplier 1: DigiKey; Supplier Part Number 1: 490-17545-1-ND; Thickness (Max): 0.022" (0.55mm); Voltage - Rated: 50V
footprint CAP 0402_1005
pins: 1, 2

## GCQ1555C1HR33CB01D
designator C?, comment 0.33pF
CAP CER 0.33PF 50V C0G/NP0 0402; Part Number: GCQ1555C1HR33CB01D; Manufacturer: Murata Electronics; Temperature Coefficient: C0G, NP0; Tolerance: ±0.25pF; Value: 0.33pF; Applications: RF, Microwave, High Frequency, Automotive; Capacitance: 0.33pF; ComponentLink1Description: Datasheet; ComponentLink1URL: https://search.murata.co.jp/Ceramy/image/img/A01X/G101/ENG/GCQ1555C1HR33CB01-01.pdf; ComponentLink2Description: DigiKey Link; ComponentLink2URL: http://digikey.com/product-detail/en/murata-electronics/GCQ1555C1HR33CB01D/490-17546-1-ND/7897718; Device Package: 0402 (1005 Metric); LastUpdated: 9/2/2020 1:02:12 AM; Lifecycle Status: Active; Minimum Order: 1; Mounting Type: Surface Mount, MLCC; Operating Temperature: -55°C ~ 125°C; Package / Case: 0402 (1005 Metric); Packaging: TapeAndReel; PartId: 7168; Part Status: Active; Price: 0.05; Ratings: AEC-Q200; Series: GCQ; Size / Dimension: 0.039" L x 0.020" W (1.00mm x 0.50mm); Supplier 1: DigiKey; Supplier Part Number 1: 490-17546-1-ND; Thickness (Max): 0.022" (0.55mm); Voltage - Rated: 50V
footprint CAP 0402_1005
pins: 1, 2

## GCQ1555C1HR36CB01D
designator C?, comment 0.36pF
CAP CER 0.36PF 50V C0G/NP0 0402; Part Number: GCQ1555C1HR36CB01D; Manufacturer: Murata Electronics; Temperature Coefficient: C0G, NP0; Tolerance: ±0.25pF; Value: 0.36pF; Applications: RF, Microwave, High Frequency, Automotive; Capacitance: 0.36pF; ComponentLink1Description: Datasheet; ComponentLink1URL: https://search.murata.co.jp/Ceramy/image/img/A01X/G101/ENG/GCQ1555C1HR36CB01-01.pdf; ComponentLink2Description: DigiKey Link; ComponentLink2URL: http://digikey.com/product-detail/en/murata-electronics/GCQ1555C1HR36CB01D/490-17547-1-ND/7897719; Device Package: 0402 (1005 Metric); LastUpdated: 9/2/2020 1:02:16 AM; Lifecycle Status: Active; Minimum Order: 1; Mounting Type: Surface Mount, MLCC; Operating Temperature: -55°C ~ 125°C; Package / Case: 0402 (1005 Metric); Packaging: TapeAndReel; PartId: 5386; Part Status: Active; Price: 0.06; Ratings: AEC-Q200; Series: GCQ; Size / Dimension: 0.039" L x 0.020" W (1.00mm x 0.50mm); Supplier 1: DigiKey; Supplier Part Number 1: 490-17547-1-ND; Thickness (Max): 0.022" (0.55mm); Voltage - Rated: 50V
footprint CAP 0402_1005
pins: 1, 2

## GCQ1555C1HR39CB01D
designator C?, comment 0.39pF
CAP CER 0.39PF 50V C0G/NP0 0402; Part Number: GCQ1555C1HR39CB01D; Manufacturer: Murata Electronics; Temperature Coefficient: C0G, NP0; Tolerance: ±0.25pF; Value: 0.39pF; Applications: RF, Microwave, High Frequency, Automotive; Capacitance: 0.39pF; ComponentLink1Description: Datasheet; ComponentLink1URL: https://search.murata.co.jp/Ceramy/image/img/A01X/G101/ENG/GCQ1555C1HR39CB01-01.pdf; ComponentLink2Description: DigiKey Link; ComponentLink2URL: http://digikey.com/product-detail/en/murata-electronics/GCQ1555C1HR39CB01D/490-17548-1-ND/7897720; Device Package: 0402 (1005 Metric); LastUpdated: 9/2/2020 1:02:16 AM; Lifecycle Status: Active; Minimum Order: 1; Mounting Type: Surface Mount, MLCC; Operating Temperature: -55°C ~ 125°C; Package / Case: 0402 (1005 Metric); Packaging: TapeAndReel; PartId: 5325; Part Status: Active; Price: 0.06; Ratings: AEC-Q200; Series: GCQ; Size / Dimension: 0.039" L x 0.020" W (1.00mm x 0.50mm); Supplier 1: DigiKey; Supplier Part Number 1: 490-17548-1-ND; Thickness (Max): 0.022" (0.55mm); Voltage - Rated: 50V
footprint CAP 0402_1005
pins: 1, 2

## GCQ1555C1HR40CB01D
designator C?, comment 0.4pF
CAP CER 0.4PF 50V C0G/NP0 0402; Part Number: GCQ1555C1HR40CB01D; Manufacturer: Murata Electronics; Temperature Coefficient: C0G, NP0; Tolerance: ±0.25pF; Value: 0.4pF; Applications: RF, Microwave, High Frequency, Automotive; Capacitance: 0.4pF; ComponentLink1Description: Datasheet; ComponentLink1URL: https://search.murata.co.jp/Ceramy/image/img/A01X/G101/ENG/GCQ1555C1HR40CB01-01.pdf; ComponentLink2Description: DigiKey Link; ComponentLink2URL: http://digikey.com/product-detail/en/murata-electronics/GCQ1555C1HR40CB01D/490-17549-1-ND/7897721; Device Package: 0402 (1005 Metric); LastUpdated: 9/2/2020 1:02:16 AM; Lifecycle Status: Active; Minimum Order: 1; Mounting Type: Surface Mount, MLCC; Operating Temperature: -55°C ~ 125°C; Package / Case: 0402 (1005 Metric); Packaging: TapeAndReel; PartId: 5352; Part Status: Active; Price: 0.06; Ratings: AEC-Q200; Series: GCQ; Size / Dimension: 0.039" L x 0.020" W (1.00mm x 0.50mm); Supplier 1: DigiKey; Supplier Part Number 1: 490-17549-1-ND; Thickness (Max): 0.022" (0.55mm); Voltage - Rated: 50V
footprint CAP 0402_1005
pins: 1, 2

## GCQ1555C1HR43CB01D
designator C?, comment 0.43pF
CAP CER 0.43PF 50V C0G/NP0 0402; Part Number: GCQ1555C1HR43CB01D; Manufacturer: Murata Electronics; Temperature Coefficient: C0G, NP0; Tolerance: ±0.25pF; Value: 0.43pF; Applications: RF, Microwave, High Frequency, Automotive; Capacitance: 0.43pF; ComponentLink1Description: Datasheet; ComponentLink1URL: https://search.murata.co.jp/Ceramy/image/img/A01X/G101/ENG/GCQ1555C1HR43CB01-01.pdf; ComponentLink2Description: DigiKey Link; ComponentLink2URL: http://digikey.com/product-detail/en/murata-electronics/GCQ1555C1HR43CB01D/490-17550-1-ND/7897722; Device Package: 0402 (1005 Metric); LastUpdated: 9/2/2020 1:02:16 AM; Lifecycle Status: Active; Minimum Order: 1; Mounting Type: Surface Mount, MLCC; Operating Temperature: -55°C ~ 125°C; Package / Case: 0402 (1005 Metric); Packaging: TapeAndReel; PartId: 5263; Part Status: Active; Price: 0.06; Ratings: AEC-Q200; Series: GCQ; Size / Dimension: 0.039" L x 0.020" W (1.00mm x 0.50mm); Supplier 1: DigiKey; Supplier Part Number 1: 490-17550-1-ND; Thickness (Max): 0.022" (0.55mm); Voltage - Rated: 50V
footprint CAP 0402_1005
pins: 1, 2

## GCQ1555C1HR45WB01D
designator C?, comment 0.45pF
CAP CER 0.45PF 50V C0G/NP0 0402; Part Number: GCQ1555C1HR45WB01D; Manufacturer: Murata Electronics; Temperature Coefficient: C0G, NP0; Tolerance: ±0.05pF; Value: 0.45pF; Applications: RF, Microwave, High Frequency, Automotive; Capacitance: 0.45pF; ComponentLink1Description: Datasheet; ComponentLink1URL: https://search.murata.co.jp/Ceramy/image/img/A01X/G101/ENG/GCQ1555C1HR45WB01-01.pdf; ComponentLink2Description: DigiKey Link; ComponentLink2URL: http://digikey.com/product-detail/en/murata-electronics/GCQ1555C1HR45WB01D/490-17551-1-ND/7897723; Device Package: 0402 (1005 Metric); LastUpdated: 9/2/2020 1:02:02 AM; Lifecycle Status: Active; Minimum Order: 1; Mounting Type: Surface Mount, MLCC; Operating Temperature: -55°C ~ 125°C; Package / Case: 0402 (1005 Metric); Packaging: TapeAndReel; PartId: 11568; Part Status: Active; Price: 0.12; Ratings: AEC-Q200; Series: GCQ; Size / Dimension: 0.039" L x 0.020" W (1.00mm x 0.50mm); Supplier 1: DigiKey; Supplier Part Number 1: 490-17551-1-ND; Thickness (Max): 0.022" (0.55mm); Voltage - Rated: 50V
footprint CAP 0402_1005
pins: 1, 2

## GCQ1555C1HR47CB01D
designator C?, comment 0.47pF
CAP CER 0.47PF 50V C0G/NP0 0402; Part Number: GCQ1555C1HR47CB01D; Manufacturer: Murata Electronics; Temperature Coefficient: C0G, NP0; Tolerance: ±0.25pF; Value: 0.47pF; Applications: RF, Microwave, High Frequency, Automotive; Capacitance: 0.47pF; ComponentLink1Description: Datasheet; ComponentLink1URL: https://search.murata.co.jp/Ceramy/image/img/A01X/G101/ENG/GCQ1555C1HR47CB01-01.pdf; ComponentLink2Description: DigiKey Link; ComponentLink2URL: http://digikey.com/product-detail/en/murata-electronics/GCQ1555C1HR47CB01D/490-17552-1-ND/7897724; Device Package: 0402 (1005 Metric); LastUpdated: 9/2/2020 1:02:16 AM; Lifecycle Status: Active; Minimum Order: 1; Mounting Type: Surface Mount, MLCC; Operating Temperature: -55°C ~ 125°C; Package / Case: 0402 (1005 Metric); Packaging: TapeAndReel; PartId: 5266; Part Status: Active; Price: 0.06; Ratings: AEC-Q200; Series: GCQ; Size / Dimension: 0.039" L x 0.020" W (1.00mm x 0.50mm); Supplier 1: DigiKey; Supplier Part Number 1: 490-17552-1-ND; Thickness (Max): 0.022" (0.55mm); Voltage - Rated: 50V
footprint CAP 0402_1005
pins: 1, 2

## GCQ1555C1HR50CB01D
designator C?, comment 0.5pF
CAP CER 0.5PF 50V C0G/NP0 0402; Part Number: GCQ1555C1HR50CB01D; Manufacturer: Murata Electronics; Temperature Coefficient: C0G, NP0; Tolerance: ±0.25pF; Value: 0.5pF; Applications: RF, Microwave, High Frequency, Automotive; Capacitance: 0.5pF; ComponentLink1Description: Datasheet; ComponentLink1URL: https://search.murata.co.jp/Ceramy/image/img/A01X/G101/ENG/GCQ1555C1HR50CB01-01.pdf; ComponentLink2Description: DigiKey Link; ComponentLink2URL: http://digikey.com/product-detail/en/murata-electronics/GCQ1555C1HR50CB01D/490-17553-1-ND/7897725; Device Package: 0402 (1005 Metric); LastUpdated: 9/2/2020 1:02:16 AM; Lifecycle Status: Active; Minimum Order: 1; Mounting Type: Surface Mount, MLCC; Operating Temperature: -55°C ~ 125°C; Package / Case: 0402 (1005 Metric); Packaging: TapeAndReel; PartId: 5332; Part Status: Active; Price: 0.06; Ratings: AEC-Q200; Series: GCQ; Size / Dimension: 0.039" L x 0.020" W (1.00mm x 0.50mm); Supplier 1: DigiKey; Supplier Part Number 1: 490-17553-1-ND; Thickness (Max): 0.022" (0.55mm); Voltage - Rated: 50V
footprint CAP 0402_1005
pins: 1, 2

## GCQ1555C1HR51CB01D
designator C?, comment 0.51pF
CAP CER 0.51PF 50V C0G/NP0 0402; Part Number: GCQ1555C1HR51CB01D; Manufacturer: Murata Electronics; Temperature Coefficient: C0G, NP0; Tolerance: ±0.25pF; Value: 0.51pF; Applications: RF, Microwave, High Frequency, Automotive; Capacitance: 0.51pF; ComponentLink1Description: Datasheet; ComponentLink1URL: https://search.murata.co.jp/Ceramy/image/img/A01X/G101/ENG/GCQ1555C1HR51CB01-01.pdf; ComponentLink2Description: DigiKey Link; ComponentLink2URL: http://digikey.com/product-detail/en/murata-electronics/GCQ1555C1HR51CB01D/490-17554-1-ND/7897726; Device Package: 0402 (1005 Metric); LastUpdated: 9/2/2020 1:02:16 AM; Lifecycle Status: Active; Minimum Order: 1; Mounting Type: Surface Mount, MLCC; Operating Temperature: -55°C ~ 125°C; Package / Case: 0402 (1005 Metric); Packaging: TapeAndReel; PartId: 5293; Part Status: Active; Price: 0.06; Ratings: AEC-Q200; Series: GCQ; Size / Dimension: 0.039" L x 0.020" W (1.00mm x 0.50mm); Supplier 1: DigiKey; Supplier Part Number 1: 490-17554-1-ND; Thickness (Max): 0.022" (0.55mm); Voltage - Rated: 50V
footprint CAP 0402_1005
pins: 1, 2

## GCQ1555C1HR56CB01D
designator C?, comment 0.56pF
CAP CER 0.56PF 50V C0G/NP0 0402; Part Number: GCQ1555C1HR56CB01D; Manufacturer: Murata Electronics; Temperature Coefficient: C0G, NP0; Tolerance: ±0.25pF; Value: 0.56pF; Applications: RF, Microwave, High Frequency, Automotive; Capacitance: 0.56pF; ComponentLink1Description: Datasheet; ComponentLink1URL: https://search.murata.co.jp/Ceramy/image/img/A01X/G101/ENG/GCQ1555C1HR56CB01-01.pdf; ComponentLink2Description: DigiKey Link; ComponentLink2URL: http://digikey.com/product-detail/en/murata-electronics/GCQ1555C1HR56CB01D/490-17555-1-ND/7897727; Device Package: 0402 (1005 Metric); LastUpdated: 9/2/2020 1:02:21 AM; Lifecycle Status: Active; Minimum Order: 1; Mounting Type: Surface Mount, MLCC; Operating Temperature: -55°C ~ 125°C; Package / Case: 0402 (1005 Metric); Packaging: TapeAndReel; PartId: 3066; Part Status: Active; Price: 0.06; Ratings: AEC-Q200; Series: GCQ; Size / Dimension: 0.039" L x 0.020" W (1.00mm x 0.50mm); Supplier 1: DigiKey; Supplier Part Number 1: 490-17555-1-ND; Thickness (Max): 0.022" (0.55mm); Voltage - Rated: 50V
footprint CAP 0402_1005
pins: 1, 2

## GCQ1555C1HR60CB01D
designator C?, comment 0.6pF
CAP CER 0.6PF 50V C0G/NP0 0402; Part Number: GCQ1555C1HR60CB01D; Manufacturer: Murata Electronics; Temperature Coefficient: C0G, NP0; Tolerance: ±0.25pF; Value: 0.6pF; Applications: RF, Microwave, High Frequency, Automotive; Capacitance: 0.6pF; ComponentLink1Description: Datasheet; ComponentLink1URL: https://search.murata.co.jp/Ceramy/image/img/A01X/G101/ENG/GCQ1555C1HR60CB01-01.pdf; ComponentLink2Description: DigiKey Link; ComponentLink2URL: http://digikey.com/product-detail/en/murata-electronics/GCQ1555C1HR60CB01D/490-17556-1-ND/7897728; Device Package: 0402 (1005 Metric); LastUpdated: 9/2/2020 1:02:16 AM; Lifecycle Status: Active; Minimum Order: 1; Mounting Type: Surface Mount, MLCC; Operating Temperature: -55°C ~ 125°C; Package / Case: 0402 (1005 Metric); Packaging: TapeAndReel; PartId: 5257; Part Status: Active; Price: 0.06; Ratings: AEC-Q200; Series: GCQ; Size / Dimension: 0.039" L x 0.020" W (1.00mm x 0.50mm); Supplier 1: DigiKey; Supplier Part Number 1: 490-17556-1-ND; Thickness (Max): 0.022" (0.55mm); Voltage - Rated: 50V
footprint CAP 0402_1005
pins: 1, 2

## GCQ1555C1HR62CB01D
designator C?, comment 0.62pF
CAP CER 0.62PF 50V C0G/NP0 0402; Part Number: GCQ1555C1HR62CB01D; Manufacturer: Murata Electronics; Temperature Coefficient: C0G, NP0; Tolerance: ±0.25pF; Value: 0.62pF; Applications: RF, Microwave, High Frequency, Automotive; Capacitance: 0.62pF; ComponentLink1Description: Datasheet; ComponentLink1URL: https://search.murata.co.jp/Ceramy/image/img/A01X/G101/ENG/GCQ1555C1HR62CB01-01.pdf; ComponentLink2Description: DigiKey Link; ComponentLink2URL: http://digikey.com/product-detail/en/murata-electronics/GCQ1555C1HR62CB01D/490-17557-1-ND/7897729; Device Package: 0402 (1005 Metric); LastUpdated: 9/2/2020 1:02:16 AM; Lifecycle Status: Active; Minimum Order: 1; Mounting Type: Surface Mount, MLCC; Operating Temperature: -55°C ~ 125°C; Package / Case: 0402 (1005 Metric); Packaging: TapeAndReel; PartId: 5284; Part Status: Active; Price: 0.06; Ratings: AEC-Q200; Series: GCQ; Size / Dimension: 0.039" L x 0.020" W (1.00mm x 0.50mm); Supplier 1: DigiKey; Supplier Part Number 1: 490-17557-1-ND; Thickness (Max): 0.022" (0.55mm); Voltage - Rated: 50V
footprint CAP 0402_1005
pins: 1, 2

## GCQ1555C1HR68CB01D
designator C?, comment 0.68pF
CAP CER 0.68PF 50V C0G/NP0 0402; Part Number: GCQ1555C1HR68CB01D; Manufacturer: Murata Electronics; Temperature Coefficient: C0G, NP0; Tolerance: ±0.25pF; Value: 0.68pF; Applications: RF, Microwave, High Frequency, Automotive; Capacitance: 0.68pF; ComponentLink1Description: Datasheet; ComponentLink1URL: https://search.murata.co.jp/Ceramy/image/img/A01X/G101/ENG/GCQ1555C1HR68CB01-01.pdf; ComponentLink2Description: DigiKey Link; ComponentLink2URL: http://digikey.com/product-detail/en/murata-electronics/GCQ1555C1HR68CB01D/490-17558-1-ND/7897730; Device Package: 0402 (1005 Metric); LastUpdated: 9/2/2020 1:02:16 AM; Lifecycle Status: Active; Minimum Order: 1; Mounting Type: Surface Mount, MLCC; Operating Temperature: -55°C ~ 125°C; Package / Case: 0402 (1005 Metric); Packaging: TapeAndReel; PartId: 5316; Part Status: Active; Price: 0.06; Ratings: AEC-Q200; Series: GCQ; Size / Dimension: 0.039" L x 0.020" W (1.00mm x 0.50mm); Supplier 1: DigiKey; Supplier Part Number 1: 490-17558-1-ND; Thickness (Max): 0.022" (0.55mm); Voltage - Rated: 50V
footprint CAP 0402_1005
pins: 1, 2

## GCQ1555C1HR70CB01D
designator C?, comment 0.7pF
CAP CER 0.7PF 50V C0G/NP0 0402; Part Number: GCQ1555C1HR70CB01D; Manufacturer: Murata Electronics; Temperature Coefficient: C0G, NP0; Tolerance: ±0.25pF; Value: 0.7pF; Applications: RF, Microwave, High Frequency, Automotive; Capacitance: 0.7pF; ComponentLink1Description: Datasheet; ComponentLink1URL: https://search.murata.co.jp/Ceramy/image/img/A01X/G101/ENG/GCQ1555C1HR70CB01-01.pdf; ComponentLink2Description: DigiKey Link; ComponentLink2URL: http://digikey.com/product-detail/en/murata-electronics/GCQ1555C1HR70CB01D/490-17559-1-ND/7897731; Device Package: 0402 (1005 Metric); LastUpdated: 9/2/2020 1:02:16 AM; Lifecycle Status: Active; Minimum Order: 1; Mounting Type: Surface Mount, MLCC; Operating Temperature: -55°C ~ 125°C; Package / Case: 0402 (1005 Metric); Packaging: TapeAndReel; PartId: 5383; Part Status: Active; Price: 0.06; Ratings: AEC-Q200; Series: GCQ; Size / Dimension: 0.039" L x 0.020" W (1.00mm x 0.50mm); Supplier 1: DigiKey; Supplier Part Number 1: 490-17559-1-ND; Thickness (Max): 0.022" (0.55mm); Voltage - Rated: 50V
footprint CAP 0402_1005
pins: 1, 2